# Altium footprint library SOL150P350X210-4N.PcbLib: 1 footprints
Each footprint in its own frame and in the unit in brackets; x right, y up, seen from the top. Pads: shape width x height; smd on the part's side, far side on the other; paste and mask are expansions set on the pad; w line width, h text height; cw(c..) or ccw(c..) is an arc to the next point about the centre after c.
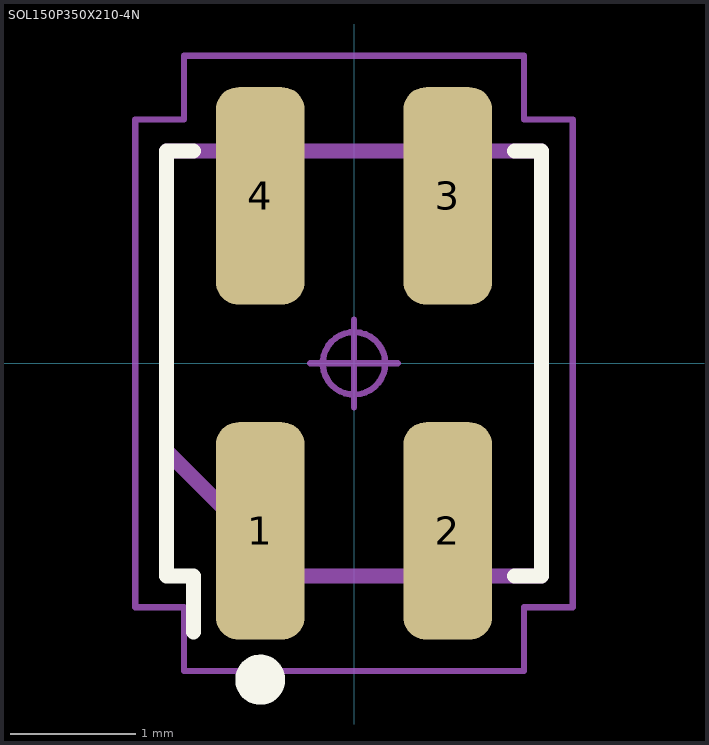
[diagram p0: the footprint, top view; thin cyan lines are the x and y axes]

## SOL150P350X210-4N [mm] "Small Outline L-Lead (SOL), 1.50 mm pitch; 4 pin, 2.80 mm L X 3.20 mm W X 2.10 mm H body"
height 2.1
pads (4):
  rrect51% 0.71x1.74 smd: 1(-0.75,-1.34) 2(0.75,-1.34) 3(0.75,1.34) 4(-0.75,1.34)
Top Overlay:
  circle w0.2: c-0.75,-2.53 r0.1
  lines w0.12: -1.285,-2.15 -1.285,-1.7 -1.5,-1.7 -1.5,1.7 -1.285,1.7 ; 1.285,-1.7 1.5,-1.7 1.5,1.7 1.285,1.7
Mechanical 11:
  lines w0.12: -1.5,-0.7 -0.5,-1.7 1.5,-1.7 1.5,1.7 -1.5,1.7 -1.5,-0.7
Mechanical 15:
  circle w0.05: c0,0 r0.25
  lines w0.05: -0.35,0 0.35,0 ; 0,-0.35 0,0.35 ; -1.75,-1.95 -1.36,-1.95 -1.36,-2.46 1.36,-2.46 1.36,-1.95 1.75,-1.95 1.75,1.95 1.36,1.95 1.36,2.46 -1.36,2.46 -1.36,1.95 -1.75,1.95 -1.75,-1.95
3D body: height 1.95, standoff 0, extent -1.4,-1.75 1.4,1.75